# Altium footprint library contrl.PcbLib: 2 footprints
Each footprint in its own frame and in the unit in brackets; x right, y up, seen from the top. Pads: shape width x height; smd on the part's side, far side on the other; paste and mask are expansions set on the pad; w line width, h text height; cw(c..) or ccw(c..) is an arc to the next point about the centre after c.
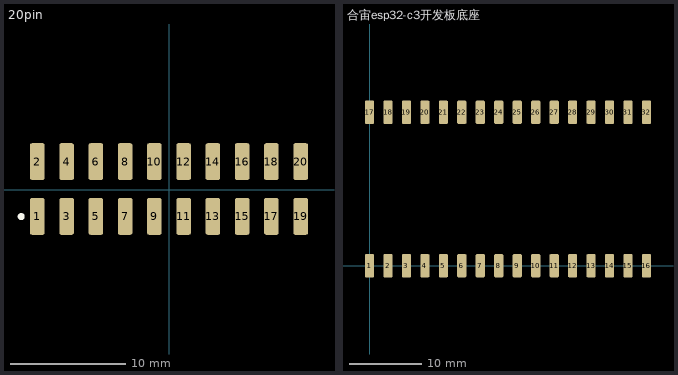
[diagram p0: the footprints below, top view; thin cyan lines are the x and y axes]

## 20pin [mil]
pads (20):
  rrect25% 50x125.2 smd mask+0: 1(-450,-90.49) 2(-450,97.01) 3(-350,-90.49) 4(-350,97.01) 5(-250,-90.49) 6(-250,97.01) 7(-150,-90.49) 8(-150,97.01) 9(-50,-90.49) 10(-50,97.01) 11(50,-90.49) 12(50,97.01) 13(150,-90.49) 14(150,97.01) 15(250,-90.49) 16(250,97.01) 17(350,-90.49) 18(350,97.01) 19(450,-90.49) 20(450,97.01)
Top Overlay:
  circle w12: c-505,-91 r6
Top Paste:
  region: -475,-153.09 -475,-27.89 -425,-27.89 -425,-153.09
  region: -475,34.41 -475,159.61 -425,159.61 -425,34.41
  region: -375,-153.09 -375,-27.89 -325,-27.89 -325,-153.09
  region: -375,34.41 -375,159.61 -325,159.61 -325,34.41
  region: -275,-153.09 -275,-27.89 -225,-27.89 -225,-153.09
  region: -275,34.41 -275,159.61 -225,159.61 -225,34.41
  region: -175,-153.09 -175,-27.89 -125,-27.89 -125,-153.09
  region: -175,34.41 -175,159.61 -125,159.61 -125,34.41
  region: -75,-153.09 -75,-27.89 -25,-27.89 -25,-153.09
  region: -75,34.41 -75,159.61 -25,159.61 -25,34.41
  region: 25,-153.09 25,-27.89 75,-27.89 75,-153.09
  region: 25,34.41 25,159.61 75,159.61 75,34.41
  region: 125,-153.09 125,-27.89 175,-27.89 175,-153.09
  region: 125,34.41 125,159.61 175,159.61 175,34.41
  region: 225,-153.09 225,-27.89 275,-27.89 275,-153.09
  region: 225,34.41 225,159.61 275,159.61 275,34.41
  region: 325,-153.09 325,-27.89 375,-27.89 375,-153.09
  region: 325,34.41 325,159.61 375,159.61 375,34.41
  region: 425,-153.09 425,-27.89 475,-27.89 475,-153.09
  region: 425,34.41 425,159.61 475,159.61 475,34.41
Top Solder:
  region: -477.01,-155.1 -477.01,-25.89 -422.99,-25.89 -422.99,-155.1
  region: -477.01,32.4 -477.01,161.61 -422.99,161.61 -422.99,32.4
  region: -377.01,-155.1 -377.01,-25.89 -322.99,-25.89 -322.99,-155.1
  region: -377.01,32.4 -377.01,161.61 -322.99,161.61 -322.99,32.4
  region: -277.01,-155.1 -277.01,-25.89 -222.99,-25.89 -222.99,-155.1
  region: -277.01,32.4 -277.01,161.61 -222.99,161.61 -222.99,32.4
  region: -177.01,-155.1 -177.01,-25.89 -122.99,-25.89 -122.99,-155.1
  region: -177.01,32.4 -177.01,161.61 -122.99,161.61 -122.99,32.4
  region: -77.01,-155.1 -77.01,-25.89 -22.99,-25.89 -22.99,-155.1
  region: -77.01,32.4 -77.01,161.61 -22.99,161.61 -22.99,32.4
  region: 22.99,-155.1 22.99,-25.89 77.01,-25.89 77.01,-155.1
  region: 22.99,32.4 22.99,161.61 77.01,161.61 77.01,32.4
  region: 122.99,-155.1 122.99,-25.89 177.01,-25.89 177.01,-155.1
  region: 122.99,32.4 122.99,161.61 177.01,161.61 177.01,32.4
  region: 222.99,-155.1 222.99,-25.89 277.01,-25.89 277.01,-155.1
  region: 222.99,32.4 222.99,161.61 277.01,161.61 277.01,32.4
  region: 322.99,-155.1 322.99,-25.89 377.01,-25.89 377.01,-155.1
  region: 322.99,32.4 322.99,161.61 377.01,161.61 377.01,32.4
  region: 422.99,-155.1 422.99,-25.89 477.01,-25.89 477.01,-155.1
  region: 422.99,32.4 422.99,161.61 477.01,161.61 477.01,32.4

## 合宙esp32-c3开发板底座 [mil]
pads (32):
  rrect25% 50x125.2 smd mask+0: 1(0,-0.49) 2(100,-0.49) 3(200,-0.49) 4(300,-0.49) 5(400,-0.49) 6(500,-0.49) 7(600,-0.49) 8(700,-0.49) 9(800,-0.49) 10(900,-0.49) 11(1000,-0.49) 12(1100,-0.49) 13(1200,-0.49) 14(1300,-0.49) 15(1400,-0.49) 16(1500,-0.49) 17(0,830.93) 18(100,830.93) 19(200,830.93) 20(300,830.93) 21(400,830.93) 22(500,830.93) 23(600,830.93) 24(700,830.93) 25(800,830.93) 26(900,830.93) 27(1000,830.93) 28(1100,830.93) 29(1200,830.93) 30(1300,830.93) 31(1400,830.93) 32(1500,830.93)
Top Paste:
  region: 1475,768.33 1475,893.53 1525,893.53 1525,768.33
  region: 1375,768.33 1375,893.53 1425,893.53 1425,768.33
  region: 1275,768.33 1275,893.53 1325,893.53 1325,768.33
  region: 1175,768.33 1175,893.53 1225,893.53 1225,768.33
  region: 1075,768.33 1075,893.53 1125,893.53 1125,768.33
  region: 975,768.33 975,893.53 1025,893.53 1025,768.33
  region: 875,768.33 875,893.53 925,893.53 925,768.33
  region: 775,768.33 775,893.53 825,893.53 825,768.33
  region: 675,768.33 675,893.53 725,893.53 725,768.33
  region: 575,768.33 575,893.53 625,893.53 625,768.33
  region: 475,768.33 475,893.53 525,893.53 525,768.33
  region: 375,768.33 375,893.53 425,893.53 425,768.33
  region: 275,768.33 275,893.53 325,893.53 325,768.33
  region: 175,768.33 175,893.53 225,893.53 225,768.33
  region: 75,768.33 75,893.53 125,893.53 125,768.33
  region: -25,768.33 -25,893.53 25,893.53 25,768.33
  region: 1475,-63.09 1475,62.11 1525,62.11 1525,-63.09
  region: 1375,-63.09 1375,62.11 1425,62.11 1425,-63.09
  region: 1275,-63.09 1275,62.11 1325,62.11 1325,-63.09
  region: 1175,-63.09 1175,62.11 1225,62.11 1225,-63.09
  region: 1075,-63.09 1075,62.11 1125,62.11 1125,-63.09
  region: 975,-63.09 975,62.11 1025,62.11 1025,-63.09
  region: 875,-63.09 875,62.11 925,62.11 925,-63.09
  region: 775,-63.09 775,62.11 825,62.11 825,-63.09
  region: 675,-63.09 675,62.11 725,62.11 725,-63.09
  region: 575,-63.09 575,62.11 625,62.11 625,-63.09
  region: 475,-63.09 475,62.11 525,62.11 525,-63.09
  region: 375,-63.09 375,62.11 425,62.11 425,-63.09
  region: 275,-63.09 275,62.11 325,62.11 325,-63.09
  region: 175,-63.09 175,62.11 225,62.11 225,-63.09
  region: 75,-63.09 75,62.11 125,62.11 125,-63.09
  region: -25,-63.09 -25,62.11 25,62.11 25,-63.09
Top Solder:
  region: 1472.99,766.32 1472.99,895.53 1527.01,895.53 1527.01,766.32
  region: 1372.99,766.32 1372.99,895.53 1427.01,895.53 1427.01,766.32
  region: 1272.99,766.32 1272.99,895.53 1327.01,895.53 1327.01,766.32
  region: 1172.99,766.32 1172.99,895.53 1227.01,895.53 1227.01,766.32
  region: 1072.99,766.32 1072.99,895.53 1127.01,895.53 1127.01,766.32
  region: 972.99,766.32 972.99,895.53 1027.01,895.53 1027.01,766.32
  region: 872.99,766.32 872.99,895.53 927.01,895.53 927.01,766.32
  region: 772.99,766.32 772.99,895.53 827.01,895.53 827.01,766.32
  region: 672.99,766.32 672.99,895.53 727.01,895.53 727.01,766.32
  region: 572.99,766.32 572.99,895.53 627.01,895.53 627.01,766.32
  region: 472.99,766.32 472.99,895.53 527.01,895.53 527.01,766.32
  region: 372.99,766.32 372.99,895.53 427.01,895.53 427.01,766.32
  region: 272.99,766.32 272.99,895.53 327.01,895.53 327.01,766.32
  region: 172.99,766.32 172.99,895.53 227.01,895.53 227.01,766.32
  region: 72.99,766.32 72.99,895.53 127.01,895.53 127.01,766.32
  region: -27.01,766.32 -27.01,895.53 27.01,895.53 27.01,766.32
  region: 1472.99,-65.1 1472.99,64.11 1527.01,64.11 1527.01,-65.1
  region: 1372.99,-65.1 1372.99,64.11 1427.01,64.11 1427.01,-65.1
  region: 1272.99,-65.1 1272.99,64.11 1327.01,64.11 1327.01,-65.1
  region: 1172.99,-65.1 1172.99,64.11 1227.01,64.11 1227.01,-65.1
  region: 1072.99,-65.1 1072.99,64.11 1127.01,64.11 1127.01,-65.1
  region: 972.99,-65.1 972.99,64.11 1027.01,64.11 1027.01,-65.1
  region: 872.99,-65.1 872.99,64.11 927.01,64.11 927.01,-65.1
  region: 772.99,-65.1 772.99,64.11 827.01,64.11 827.01,-65.1
  region: 672.99,-65.1 672.99,64.11 727.01,64.11 727.01,-65.1
  region: 572.99,-65.1 572.99,64.11 627.01,64.11 627.01,-65.1
  region: 472.99,-65.1 472.99,64.11 527.01,64.11 527.01,-65.1
  region: 372.99,-65.1 372.99,64.11 427.01,64.11 427.01,-65.1
  region: 272.99,-65.1 272.99,64.11 327.01,64.11 327.01,-65.1
  region: 172.99,-65.1 172.99,64.11 227.01,64.11 227.01,-65.1
  region: 72.99,-65.1 72.99,64.11 127.01,64.11 127.01,-65.1
  region: -27.01,-65.1 -27.01,64.11 27.01,64.11 27.01,-65.1